# EAGLE library part ADTR1107ACCZ (library My_Library_RADAR)
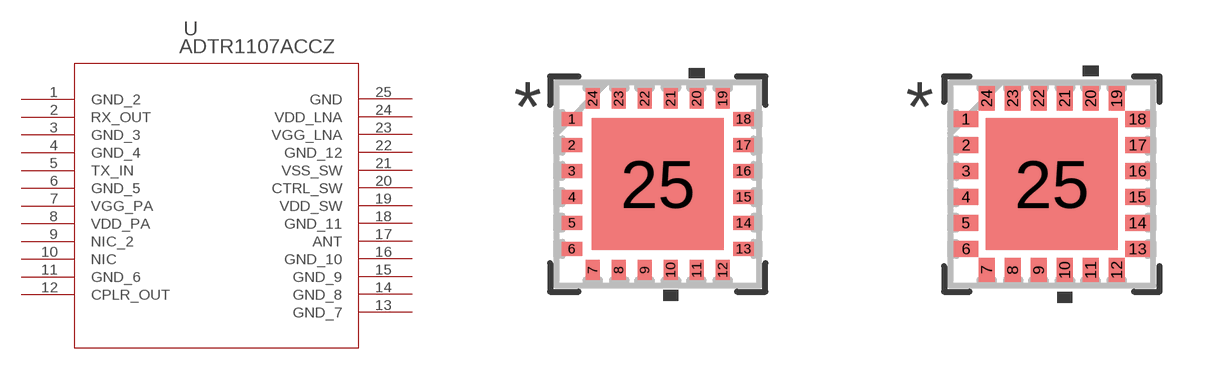
[diagram p7: symbol with the pads of CC-24-8_ADI; footprints CC-24-8_ADI, CC-24-8_ADI-M]

Designator prefix U

## ADTR1107ACCZ (COPYRIGHT: Copyright (C) 2024 Ultra Librarian. All rights reserved.; MANUFACTURER_PART_NUMBER: ADTR1107ACCZ; MFR_NAME: Analog Devices Inc; TYPE: RF)  [CC-24-8_ADI]
1  GND_2  pas
2  RX_OUT  out
3  GND_3  pas
4  GND_4  pas
5  TX_IN  in
6  GND_5  pas
7  VGG_PA  pwr
8  VDD_PA  pwr
9  NIC_2  nc
10  NIC  nc
11  GND_6  pas
12  CPLR_OUT  out
13  GND_7  pas
14  GND_8  pas
15  GND_9  pas
16  GND_10  pas
17  ANT
18  GND_11  pas
19  VDD_SW  pwr
20  CTRL_SW  in
21  VSS_SW  pas
22  GND_12  pas
23  VGG_LNA  pwr
24  VDD_LNA  pwr
25  GND  pas

## ADTR1107ACCZCC-24-8_ADI-M (COPYRIGHT: Copyright (C) 2024 Ultra Librarian. All rights reserved.; MANUFACTURER_PART_NUMBER: ADTR1107ACCZ; MFR_NAME: Analog Devices Inc; TYPE: RF)  [CC-24-8_ADI-M]
Pads as for CC-24-8_ADI

## ADTR1107ACCZCC-24-8_ADI-L (COPYRIGHT: Copyright (C) 2024 Ultra Librarian. All rights reserved.; MANUFACTURER_PART_NUMBER: ADTR1107ACCZ; MFR_NAME: Analog Devices Inc; TYPE: RF)  [CC-24-8_ADI-L]
Pads as for CC-24-8_ADI

## Footprint CC-24-8_ADI (pad centres in mm)
smd 0.508 x 0.356: 1 -2.146,1.625; 2 -2.146,0.975; 3 -2.146,0.325; 4 -2.146,-0.325; 5 -2.146,-0.975; 6 -2.146,-1.625; 13 2.146,-1.625; 14 2.146,-0.975; 15 2.146,-0.325; 16 2.146,0.325; 17 2.146,0.975; 18 2.146,1.625
smd 0.356 x 0.508: 7 -1.625,-2.146; 8 -0.975,-2.146; 9 -0.325,-2.146; 10 0.325,-2.146; 11 0.975,-2.146; 12 1.625,-2.146; 19 1.625,2.146; 20 0.975,2.146; 21 0.325,2.146; 22 -0.325,2.146; 23 -0.975,2.146; 24 -1.625,2.146
smd 3.302 x 3.302: 25 0,0

## Footprint CC-24-8_ADI-M (pad centres in mm)
smd 0.61 x 0.406: 1 -2.146,1.625; 2 -2.146,0.975; 3 -2.146,0.325; 4 -2.146,-0.325; 5 -2.146,-0.975; 6 -2.146,-1.625; 13 2.146,-1.625; 14 2.146,-0.975; 15 2.146,-0.325; 16 2.146,0.325; 17 2.146,0.975; 18 2.146,1.625
smd 0.406 x 0.61: 7 -1.625,-2.146; 8 -0.975,-2.146; 9 -0.325,-2.146; 10 0.325,-2.146; 11 0.975,-2.146; 12 1.625,-2.146; 19 1.625,2.146; 20 0.975,2.146; 21 0.325,2.146; 22 -0.325,2.146; 23 -0.975,2.146; 24 -1.625,2.146
smd 3.302 x 3.302: 25 0,0

## Footprint CC-24-8_ADI-L (pad centres in mm)
smd 0.406 x 0.305: 1 -2.146,1.625; 2 -2.146,0.975; 3 -2.146,0.325; 4 -2.146,-0.325; 5 -2.146,-0.975; 6 -2.146,-1.625; 13 2.146,-1.625; 14 2.146,-0.975; 15 2.146,-0.325; 16 2.146,0.325; 17 2.146,0.975; 18 2.146,1.625
smd 0.305 x 0.406: 7 -1.625,-2.146; 8 -0.975,-2.146; 9 -0.325,-2.146; 10 0.325,-2.146; 11 0.975,-2.146; 12 1.625,-2.146; 19 1.625,2.146; 20 0.975,2.146; 21 0.325,2.146; 22 -0.325,2.146; 23 -0.975,2.146; 24 -1.625,2.146
smd 3.302 x 3.302: 25 0,0